# Altium footprint library Footprints.PcbLib: 18 footprints (part 1 of 2)
Each footprint in its own frame and in the unit in brackets; x right, y up, seen from the top. Pads: shape width x height; smd on the part's side, far side on the other; paste and mask are expansions set on the pad; w line width, h text height; cw(c..) or ccw(c..) is an arc to the next point about the centre after c.
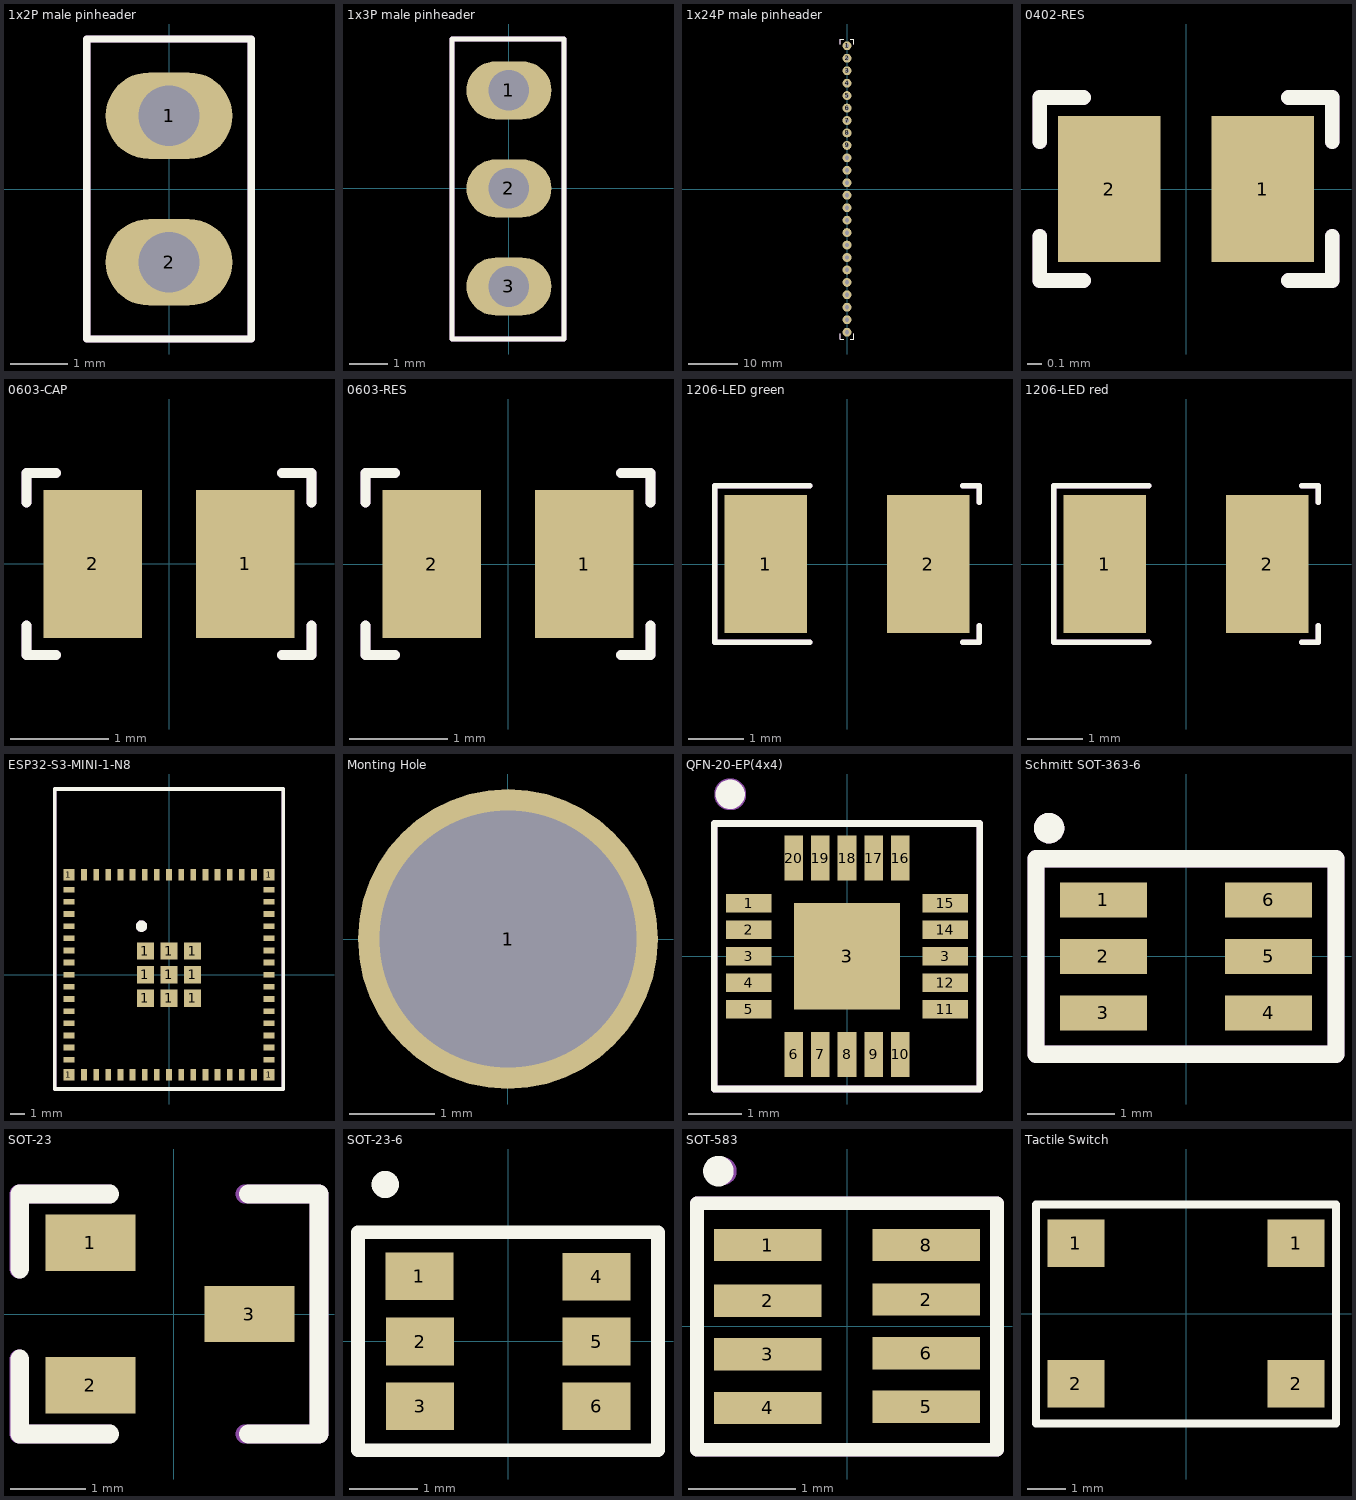
[diagram p0: the footprints below, top view; thin cyan lines are the x and y axes]

## 1x2P male pinheader [mm]
pads (2):
  oval 2.2x1.5 hole 1.05: 1(0,1.27) 2(0,-1.27)
Top Overlay:
  lines w0.127: -1.425,-2.6 1.425,-2.6 1.425,2.6 -1.425,2.6 -1.425,-2.6
Mechanical 29:
  lines w0.127: -1.425,-2.6 1.425,-2.6 1.425,2.6 -1.425,2.6 -1.425,-2.6
  text ".Designator" at -4.998,-0.333 h1
3D body "HTSW-102-07-G-S.stp": height 8.38, standoff -2.54, extent -1.245,-2.54 1.245,2.54

## 1x3P male pinheader [mm]
pads (3):
  oval 2.2x1.5 hole 1.05: 1(0,2.54) 2(0,0) 3(0,-2.54)
Top Overlay:
  lines w0.127: -1.475,-3.9 1.425,-3.9 1.425,3.87 -1.475,3.87 -1.475,-3.9
Mechanical 29:
  lines w0.127: -1.475,-3.9 1.425,-3.9 1.425,3.87 -1.475,3.87 -1.475,-3.9
  text ".Designator" at -4.998,-0.333 h1
3D body "strip_tsw-103-07-ss-s.stp": height 8.44, standoff -2.48, extent -1.29,-3.85 1.25,3.897

## 1x24P male pinheader [mm]
pads (24):
  round 1.8 hole 0.9: 1(0,29.21) 2(0,26.67) 3(0,24.13) 4(0,21.59) 5(0,19.05) 6(0,16.51) 7(0,13.97) 8(0,11.43) 9(0,8.89) 10(0,6.35) 11(0,3.81) 12(0,1.27) 13(0,-1.27) 14(0,-3.81) 15(0,-6.35) 16(0,-8.89) 17(0,-11.43) 18(0,-13.97) 19(0,-16.51) 20(0,-19.05) 21(0,-21.59) 22(0,-24.13) 23(0,-26.67) 24(0,-29.21)
Top Overlay:
  lines w0.2: -1.4,-29.5 -1.4,-30.6 -0.7,-30.6 ; -1.4,29.5 -1.4,30.6 -0.7,30.6 ; 0.7,-30.6 1.4,-30.6 1.4,-29.5 ; 0.7,30.6 1.4,30.6 1.4,29.5
Mechanical 29:
  lines w0.2: -1.4,-29.5 -1.4,-30.6 -0.7,-30.6 ; -1.4,29.5 -1.4,30.6 -0.7,30.6 ; 0.7,-30.6 1.4,-30.6 1.4,-29.5 ; 0.7,30.6 1.4,30.6 1.4,29.5
  text ".Designator" at -4.998,-0.333 h1
3D body "MTLW-124-07-G-S-240.stp": height 7.62, standoff -3.3, extent -1.245,-30.48 1.245,30.48

## 0402-RES [mm]
pads (2):
  rect 0.7x1 smd: 1(0.525,0) 2(-0.525,0)
Top Overlay:
  lines w0.1: -1,-0.325 -1,-0.625 -0.7,-0.625 ; -1,0.325 -1,0.625 -0.7,0.625 ; 0.7,-0.625 1,-0.625 1,-0.325 ; 0.7,0.625 1,0.625 1,0.325
Mechanical 29:
  lines w0.1: -1,-0.325 -1,-0.625 -0.7,-0.625 ; -1,0.325 -1,0.625 -0.7,0.625 ; 0.7,-0.625 1,-0.625 1,-0.325 ; 0.7,0.625 1,0.625 1,0.325
  text ".Designator" at -4.998,-0.333 h1
3D body "RC0402N_PAN.step": height 0.51, standoff 0.01, extent -0.525,-0.361 0.525,0.35

## 0603-CAP [mm]
pads (2):
  rect 1x1.5 smd: 1(0.775,0) 2(-0.775,0)
Top Overlay:
  lines w0.1: -1.45,-0.625 -1.45,-0.925 -1.15,-0.925 ; -1.45,0.625 -1.45,0.925 -1.15,0.925 ; 1.15,-0.925 1.45,-0.925 1.45,-0.625 ; 1.15,0.925 1.45,0.925 1.45,0.625
Mechanical 29:
  lines w0.1: -1.45,-0.625 -1.45,-0.925 -1.15,-0.925 ; -1.45,0.625 -1.45,0.925 -1.15,0.925 ; 1.15,-0.925 1.45,-0.925 1.45,-0.625 ; 1.15,0.925 1.45,0.925 1.45,0.625
  text ".Designator" at -4.998,-0.333 h1
3D body "0603 Cap.STEP": height 0.94, standoff 0, extent -0.8,-0.4 0.8,0.4

## 0603-RES [mm]
pads (2):
  rect 1x1.5 smd: 1(0.775,0) 2(-0.775,0)
Top Overlay:
  lines w0.1: -1.45,-0.625 -1.45,-0.925 -1.15,-0.925 ; -1.45,0.625 -1.45,0.925 -1.15,0.925 ; 1.15,-0.925 1.45,-0.925 1.45,-0.625 ; 1.15,0.925 1.45,0.925 1.45,0.625
Mechanical 29:
  lines w0.1: -1.45,-0.625 -1.45,-0.925 -1.15,-0.925 ; -1.45,0.625 -1.45,0.925 -1.15,0.925 ; 1.15,-0.925 1.45,-0.925 1.45,-0.625 ; 1.15,0.925 1.45,0.925 1.45,0.625
  text ".Designator" at -4.998,-0.333 h1
3D body "res 0603.STEP": height 0.45, standoff 0, extent -0.8,-0.4 0.8,0.4

## 1206-LED green [mm]
pads (2):
  rect 1.5x2.5 smd: 1(-1.475,0) 2(1.475,0)
Top Overlay:
  lines w0.1: -0.675,-1.425 -2.4,-1.425 -2.4,1.425 -0.675,1.425 ; 2.1,-1.425 2.4,-1.425 2.4,-1.125 ; 2.1,1.425 2.4,1.425 2.4,1.125
Mechanical 29:
  lines w0.1: -0.675,-1.425 -2.4,-1.425 -2.4,1.425 -0.675,1.425 ; 2.1,-1.425 2.4,-1.425 2.4,-1.125 ; 2.1,1.425 2.4,1.425 2.4,1.125
  text ".Designator" at -4.998,-0.333 h1
3D body "LED green 1206 .STEP": height 1.1, standoff 0, extent -1.6,-0.8 1.6,0.8

## 1206-LED red [mm]
pads (2):
  rect 1.5x2.5 smd: 1(-1.475,0) 2(1.475,0)
Top Overlay:
  lines w0.1: -0.675,-1.425 -2.4,-1.425 -2.4,1.425 -0.675,1.425 ; 2.1,-1.425 2.4,-1.425 2.4,-1.125 ; 2.1,1.425 2.4,1.425 2.4,1.125
Mechanical 29:
  lines w0.1: -0.675,-1.425 -2.4,-1.425 -2.4,1.425 -0.675,1.425 ; 2.1,-1.425 2.4,-1.425 2.4,-1.125 ; 2.1,1.425 2.4,1.425 2.4,1.125
  text ".Designator" at -4.998,-0.333 h1
3D body "LED red 1206 .stp": height 0.9, standoff 0, extent -1.66,-0.737 1.61,0.913

## ESP32-S3-MINI-1-N8 [mm]
pads (73):
  rect 0.8x0.8 smd: 1(-7,-7) 1(-7,7) 1(7,-7) 1(7,7)
  rect 0.8x0.4 smd: 1(-7,5.1) 1(-7,5.95) 1(7,3.4) 1(7,4.25) 3(-7,4.25) 4(-7,3.4) 5(-7,2.55) 6(-7,1.7) 7(-7,0.85) 8(-7,0) 9(-7,-0.85) 10(-7,-1.7) 11(-7,-2.55) 12(-7,-3.4) 13(-7,-4.25) 14(-7,-5.1) 15(-7,-5.95) 31(7,-5.95) 32(7,-5.1) 33(7,-4.25) 34(7,-3.4) 35(7,-2.55) 36(7,-1.7) 37(7,-0.85) 38(7,0) 39(7,0.85) 40(7,1.7) 41(7,2.55) 44(7,5.1) 45(7,5.95)
  rect 0.4x0.8 smd: 1(-5.95,7) 1(-5.1,7) 1(-4.25,7) 1(-3.4,7) 1(-2.55,7) 1(-1.7,7) 1(-0.85,7) 1(0,7) 1(0.85,7) 1(1.7,7) 1(2.55,7) 1(3.4,7) 1(4.25,7) 1(5.1,7) 1(5.95,7) 16(-5.95,-7) 17(-5.1,-7) 18(-4.25,-7) 19(-3.4,-7) 20(-2.55,-7) 21(-1.7,-7) 22(-0.85,-7) 23(0,-7) 24(0.85,-7) 25(1.7,-7) 26(2.55,-7) 27(3.4,-7) 28(4.25,-7) 29(5.1,-7) 30(5.95,-7)
  rect 1.2x1.2 smd: 1(-1.65,-1.65) 1(-1.65,0) 1(-1.65,1.65) 1(0,-1.65) 1(0,0) 1(0,1.65) 1(1.65,-1.65) 1(1.65,0) 1(1.65,1.65)
Top Overlay:
  circle w0.4: c-1.925,3.4 r0.2
  lines w0.25: -8,-8 -8,13 8,13 8,-8 -8,-8
Mechanical 29:
  circle w0.4: c-1.925,3.4 r0.2
  lines w0.25: -8,-8 8,-8 8,13 -8,13 -8,-8
  text ".Designator" at -4.998,-0.333 h1
3D body "ESP32-S3-MINI-1.STEP": height 2.4, standoff -0.02, extent -7.7,-7.75 7.7,12.75

## Monting Hole [mm]
pads (1):
  round 3.5 hole 3: 1(0,0)

## QFN-20-EP(4x4) [mm]
pads (21):
  rect 0.85x0.35 smd: 1(-1.85,1) 2(-1.85,0.5) 3(-1.85,0) 3(1.85,0) 4(-1.85,-0.5) 5(-1.85,-1) 11(1.85,-1) 12(1.85,-0.5) 14(1.85,0.5) 15(1.85,1)
  rect 2x2 smd: 3(0,0)
  rect 0.35x0.85 smd: 6(-1,-1.85) 7(-0.5,-1.85) 8(0,-1.85) 9(0.5,-1.85) 10(1,-1.85) 16(1,1.85) 17(0.5,1.85) 18(0,1.85) 19(-0.5,1.85) 20(-1,1.85)
Top Overlay:
  circle w0.35: c-2.2,3.05 r0.1
  lines w0.127: -2.5,-2.5 -2.5,2.5 2.5,2.5 2.5,-2.5 -2.5,-2.5
Mechanical 29:
  circle w0.5: c-2.2,3.05 r0.05
  lines w0.127: -2.5,-2.5 -2.5,2.5 2.5,2.5 2.5,-2.5 -2.5,-2.5
  text ".Designator" at -4.998,-0.333 h1
3D body "QFN-20-EP(4x4).STEP": height 0.75, standoff -0.05, extent -2,-2 2,2

## Schmitt SOT-363-6 [mm]
pads (6):
  rect 1x0.4 smd: 1(-0.95,0.65) 2(-0.95,0) 3(-0.95,-0.65) 4(0.95,-0.65) 5(0.95,0) 6(0.95,0.65)
Top Overlay:
  circle w0.2: c-1.575,1.475 r0.075
  lines w0.2: -1.725,-1.125 1.725,-1.125 1.725,1.125 -1.725,1.125 -1.725,-1.125
Mechanical 29:
  circle w0.2: c-1.575,1.475 r0.075
  lines w0.2: -1.725,-1.125 1.725,-1.125 1.725,1.125 -1.725,1.125 -1.725,-1.125
  text ".Designator" at -5.023,-0.333 h1
3D body "NC7WZ17P6X.STEP": height 1.1, standoff 0, extent -1.025,-1 1.075,1

## SOT-23 [mm]
pads (3):
  rect 1.2x0.75 smd: 1(-1.11,0.95) 2(-1.11,-0.95) 3(1.01,0)
Top Overlay:
  lines w0.25: -2.05,-0.6 -2.05,-1.6 -0.85,-1.6 ; -2.05,0.6 -2.05,1.6 -0.85,1.6 ; 1,-1.6 1.94,-1.6 1.94,1.6 1,1.6
Mechanical 29:
  lines w0.25: -2.06,-0.6 -2.06,-1.6 -0.86,-1.6 ; -2.06,0.6 -2.06,1.6 -0.86,1.6 ; 0.95,-1.6 1.94,-1.6 1.94,1.6 0.95,1.6
  text ".Designator" at -4.998,-0.333 h1
3D body "SOT-23-3.STEP": height 1.12, standoff 0, extent -1.21,-1.5 1.21,1.5

## SOT-23-6 [mm]
pads (6):
  rect 1x0.7 smd: 1(-1.299,0.954) 2(-1.291,-0.004) 3(-1.291,-0.954) 4(1.299,0.946) 5(1.299,-0.004) 6(1.299,-0.954)
Top Overlay:
  circle w0.2: c-1.8,2.3 r0.1
  lines w0.2: -2.2,-1.6 2.2,-1.6 2.2,1.6 -2.2,1.6 -2.2,-1.6
Mechanical 29:
  text ".Designator" at -4.998,-0.333 h1
3D body "SOT-23-6_ESD-Littlefuse.STEP": height 1.45, standoff 0, extent -1.4,-1.45 1.4,1.45

## SOT-583 [mm]
pads (8):
  rect 1x0.3 smd: 1(-0.74,0.76) 2(-0.74,0.24) 2(0.74,0.25) 3(-0.74,-0.26) 4(-0.74,-0.76) 5(0.74,-0.75) 6(0.74,-0.25) 8(0.74,0.76)
Top Overlay:
  circle w0.2: c-1.2,1.45 r0.042
  lines w0.127: -1.4,-1.15 1.4,-1.15 1.4,1.15 -1.4,1.15 -1.4,-1.15
Mechanical 29:
  lines w0.127: -1.4,-1.15 1.4,-1.15 1.4,1.15 -1.4,1.15 -1.4,-1.15
  lines w0.2: -1.132,1.462 ccw(c-1.158,1.45) -1.129,1.45
  text ".Designator" at -4.998,-0.333 h1
3D body "TPS2116DRLR--3DModel-STEP-510211.STEP": height 0.6, standoff 0, extent -0.8,-1.05 0.8,1.05

## Tactile Switch [mm]
pads (4):
  rect 1.5x1.25 smd: 1(-2.9,1.85) 1(2.9,1.85) 2(-2.9,-1.85) 2(2.9,-1.85)
Top Overlay:
  lines w0.2: -3.95,-2.896 -3.95,2.87 3.95,2.87 3.95,-2.896 -3.95,-2.896
3D body "TS-1187A-B-A-B--3DModel-STEP-56544.STEP": height 1.55, standoff 0, extent -3.25,-2.55 3.25,2.55